# Altium integrated library Capacitors Other.IntLib: 11 symbols
Pins are listed as number, name and electrical type; pins without a type are passive.

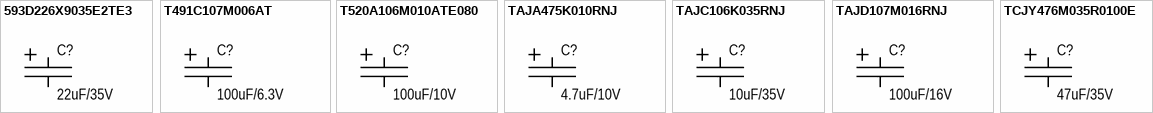
[diagram p0: symbols 593D226X9035E2TE3 to TCJY476M035R0100E]

## 593D226X9035E2TE3
designator C?, comment 22uF/35V
CAPT 22uF 35V E 2917(7343); Manufacturer: Vishay Sprague; Part name: 593D226X9035E2TE3; Group: Discrete; Tolerance: ±10%; Type: Molded; ESR: 272 mOhm; Component: Capacitor Tantalum; Voltage: 35V; Package: E 2917(7343); Capacitance: 22uF; Operating temperature: -55°C +125°C; Mounting type: Surface mount; Height: 4.32mm; Dimension: 7.30mm x 4.30mm
footprint CAPT7343N
pins: N, P

## T491C107M006AT
designator C?, comment 100uF/6.3V
CAPT 100uF 6.3V C 2312(6032); Manufacturer: KEMET; Part name: T491C107M006AT; Group: Discrete; Lifetime/Temp: 2000 Hrs/125°C; Tolerance: ±20%; Type: Molded; ESR: 900 mOhm; Component: Capacitor Tantalum; Voltage: 6.3V; Package: C 2312(6032); Capacitance: 100uF; Operating temperature: -55°C +125°C; Mounting type: Surface mount; Height: 2.80mm; Dimension: 6.00mm x 3.20mm
footprint CAPT6032N
pins: N, P

## T520A106M010ATE080
designator C?, comment 100uF/10V
CAPT 10uF 10V A 1206 (3216); Manufacturer: KEMET; Part name: T520A106M010ATE080; Lifetime/Temp: 2000 Hrs/105°C; Tolerance: ±20%; Type: Molded; ESR: 80 mOhm/100kHz; Group: Discrete; Capacitance: 100uF; Component: Capacitor Tantalum; Package: A 1206 (3216); Operating temperature: -55°C +125°C; Mounting type: Surface mount; Height: 1.80mm; Dimension: 3.20mm x 1.60mm; Voltage: 10V
footprint CAPT3216N
pins: N, P

## TAJA475K010RNJ
designator C?, comment 4.7uF/10V
CAPT 4.7uF 10V A 1206(3216); Manufacturer: AVX; Part name: TAJA475K010RNJ; Group: Discrete; Tolerance: ±10%; Type: Molded; ESR: 5 Ohm; Component: Capacitor Tantalum; Voltage: 10V; Package: A 1206(3216); Capacitance: 4.7uF; Operating temperature: -55°C +125°C; Mounting type: Surface mount; Height: 1.80mm; Dimension: 7.30mm x 4.30mm
footprint CAPT3216N
pins: N, P

## TAJC106K035RNJ
designator C?, comment 10uF/35V
CAPT 10uF 35V C 2312(6032); Manufacturer: AVX; Part name: TAJC106K035RNJ; Group: Discrete; Tolerance: ±10%; Type: Molded; ESR: 1.6 Ohm; Component: Capacitor Tantalum; Voltage: 35V; Package: C 2917(7343); Capacitance: 10uF; Operating temperature: -55°C +125°C; Mounting type: Surface mount; Height: 2.80mm; Dimension: 6.00mm x 3.20mm
footprint CAPT6032N
pins: N, P

## TAJD107M016RNJ
designator C?, comment 100uF/16V
CAPT 100uF 16V D 2917(7343); Manufacturer: AVX; Part name: TAJD107M016RNJ; Group: Discrete; Tolerance: ±20%; Type: Molded; ESR: 600 mOhm; Component: Capacitor Tantalum; Voltage: 16V; Package: D 2917(7343); Capacitance: 100uF; Operating temperature: -55°C +125°C; Mounting type: Surface mount; Height: 3.10mm; Dimension: 7.30mm x 4.30mm
footprint CAPT7343N
pins: N, P

## TCJY476M035R0100E
designator C?, comment 47uF/35V
CAPT 47uF 35V D 2917(7343); Manufacturer: KEMET; Part name: TCJY476M035R0100E; Group: Discrete; Lifetime/Temp: 2000 Hrs/105°C; Tolerance: ±20%; Type: Molded; ESR: 100 mOhm; Component: Capacitor Tantalum; Voltage: 35V; Package: D 2917(7343); Capacitance: 47uF; Operating temperature: -55°C +105°C; Mounting type: Surface mount; Height: 2.80mm; Dimension: 7.30mm x 4.30mm
footprint CAPT7343N
pins: N, P


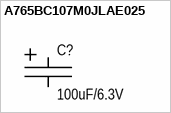
[diagram p1: symbol A765BC107M0JLAE025]

## A765BC107M0JLAE025
designator C?, comment 100uF/6.3V
CAP P 100uF 6.3V SM D5H6.3; Manufacturer: KEMET; Part name: A765BC107M0JLAE025; Group: Discrete; Lifetime/Temp: 2000 Hrs/105°C; Tolerance: ±20%; Type: Polymer; ESR: 25 mOhm; Component: Capacitor Aluminium; Voltage: 6.3V; Package: CAPA-D5H6.3; Capacitance: 100uF; Operating temperature: -55°C +105°C; Mounting type: Surface mount; Height: 6.30mm; Dimension: 5.30mm x 5.30mm
footprint CAP_P_SM_D5H6.3 (Footprint not found)
pins: N, P


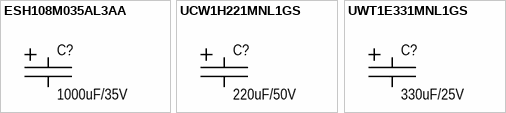
[diagram p2: symbols ESH108M035AL3AA to UWT1E331MNL1GS]

## ESH108M035AL3AA
designator C?, comment 1000uF/35V
CAP E 1000uF 35V TH D13H20; Manufacturer: KEMET; Part name: ESH108M035AL3AA; Group: Discrete; Lifetime/Temp: 2000 Hrs/105°C; Tolerance: ±20%; Type: Electrolytic; ESR: mOhm; Component: Capacitor Aluminium; Voltage: 35V; Package: CAPE-TH-D13H22; Capacitance: 1000uF; Operating temperature: -55°C +105°C; Mounting type: Surface mount; Height: 22.00mm; Dimension: 13.00mm x 13.00mm
footprint CAPE-TH-D13H20-RA (Footprint not found)
footprint CAPE-TH-D13H20 (Footprint not found)
pins: N, P

## UCW1H221MNL1GS
designator C?, comment 220uF/50V
CAP E 220uF 50V SM D10H10; Manufacturer: Nichicon; Part name: UCW1H221MNL1GS; Group: Discrete; Lifetime/Temp: 7000 Hrs/105°C; Tolerance: ±20%; Type: Electrolytic; Component: Capacitor Aluminium; Voltage: 50V; Package: CAPA-D10H10; Capacitance: 220uF; Operating temperature: -55°C +105°C; Mounting type: Surface mount; Height: 10.00mm; Dimension: 10.30mm x 10.30mm
footprint CAP_E_SM_D10H10 (Footprint not found)
pins: N, P

## UWT1E331MNL1GS
designator C?, comment 330uF/25V
CAP E 330uF 25V SM D8H10; Manufacturer: Nichicon; Part name: UWT1E331MNL1GS; Group: Discrete; Lifetime/Temp: 1000 Hrs/105°C; Tolerance: ±20%; Type: Electrolytic; Component: Capacitor Aluminium; Voltage: 25V; Package: CAPA-D6H10; Capacitance: 330uF; Operating temperature: -55°C +105°C; Mounting type: Surface mount; Height: 10.00mm; Dimension: 8.30mm x 8.30mm
footprint CAP_E_SM_D8H10 (Footprint not found)
pins: N, P